# Altium integrated library MergenElektronik_Sensors_Gyroscope-Accelerometer-Magnetometer.IntLib: 1 symbol
Pins are listed as number, name and electrical type; pins without a type are passive.

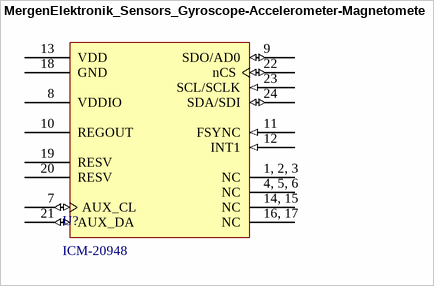
[diagram p0: symbol MergenElektronik_Sensors_Gyroscope-Accelerometer-Magnetometer_ICM-20948]

## MergenElektronik_Sensors_Gyroscope-Accelerometer-Magnetometer_ICM-20948
designator U?, comment ICM-20948
Mergen Elektronik - Sensors - Gytoscope - Accelometer - Magnetometer - ICM-20948; Manufacturer: TDK InvenSense; Model: Gyroscope-Accelerometer-Magnetometer Sensor; Operating Supply Voltage: 1.7VDC up to 3.6VDC; Output Type: I2C, SPI; Digi-Key Number: 1428-1123-2-ND; Manufacturer Number: ICM-20948; Mounting Type: Surface Mount; Mouser Number: 410-ICM-20948; Farnell Number: 2911498; Özdisan Number: ICM-20948; Package: 24-QFN; Temperature: -40°C up to 85°C; Supplier 1: Digi-Key; Supplier Number 1: 1428-1123-2-ND; Supplier 2: Mouser; Supplier Number 2: 410-ICM-20948
footprint MergenElektronik_Sensors_Gyroscope-Accelerometer-Magnetometer_24-QFN (24-QFN)
pins: 1, 2, 3 NC, 4, 5, 6 NC, 7 AUX_CL (io), 8 VDDIO (power), 9 SDO/AD0 (io), 10 REGOUT (power), 11 FSYNC (in), 12 INT1 (in), 13 VDD (power), 14, 15 NC, 16, 17 NC, 18 GND (power), 19 RESV, 20 RESV, 21 AUX_DA (io), 22 nCS (io), 23 SCL/SCLK (in), 24 SDA/SDI (io)